# EAGLE library part 53261-1571 (library CON-FFC)
MOLEX CONN HEADER 15POS 1.25MM R/A 53261 series, mates with 51021-1500 (29-100719-00)
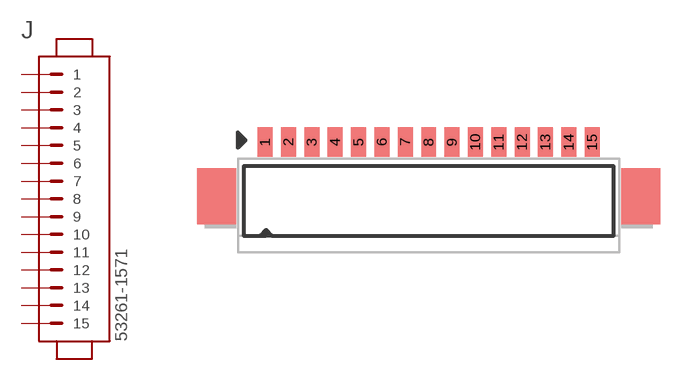
[diagram p0: symbol with the pads of MOLEX_53261-1571; footprint MOLEX_53261-1571]

Designator prefix J

## 53261-1571 (PARTNO: 29-100718-00)  [MOLEX_53261-1571]
1  1
2  2
3  3
4  4
5  5
6  6
7  7
8  8
9  9
10  10
11  11
12  12
13  13
14  14
15  15

## Footprint MOLEX_53261-1571 (pad centres in mm)
Molex 53261-1571 connector. 15pos 1.25mm R/A
smd 0.8 x 1.6: 1 -8.75,1.4; 2 -7.5,1.4; 3 -6.25,1.4; 4 -5,1.4; 5 -3.75,1.4; 6 -2.5,1.4; 7 -1.25,1.4; 8 0,1.4; 9 1.25,1.4; 10 2.5,1.4; 11 3.75,1.4; 12 5,1.4; 13 6.25,1.4; 14 7.5,1.4; 15 8.75,1.4